# Altium schematic symbol library BLLP412S.SchLib: 1 symbol
Pins are listed as number, name and electrical type; pins without a type are passive.

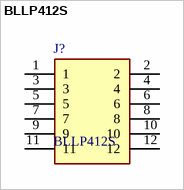
[diagram p0: symbol BLLP412S]

## BLLP412S
designator J?
12 postion female double row connectors ,stamped contact spring (fork contact) .125 V AC ,3 A ,2.54 pitch  ,gold-plated ,THT (soldering).; Manufacturer_Name: Fischer Elektronik GmbH & Co. KG; Geometry.Height: 5mm; Manufacturer_Part_Number: BLLP412S; Mouser Part Number: *; Mouser Price/Stock: *; Arrow Part Number: *; Arrow Price/Stock: *; Datasheet Link: https://www.fischerelektronik.de/web_fischer/en_GB/VA/BLLP412S/datasheet.xhtml
footprint BLLP412S
pins: 1, 2, 3, 4, 5, 6, 7, 8, 9, 10, 11, 12